# EAGLE library part AMBER (library Amiga)
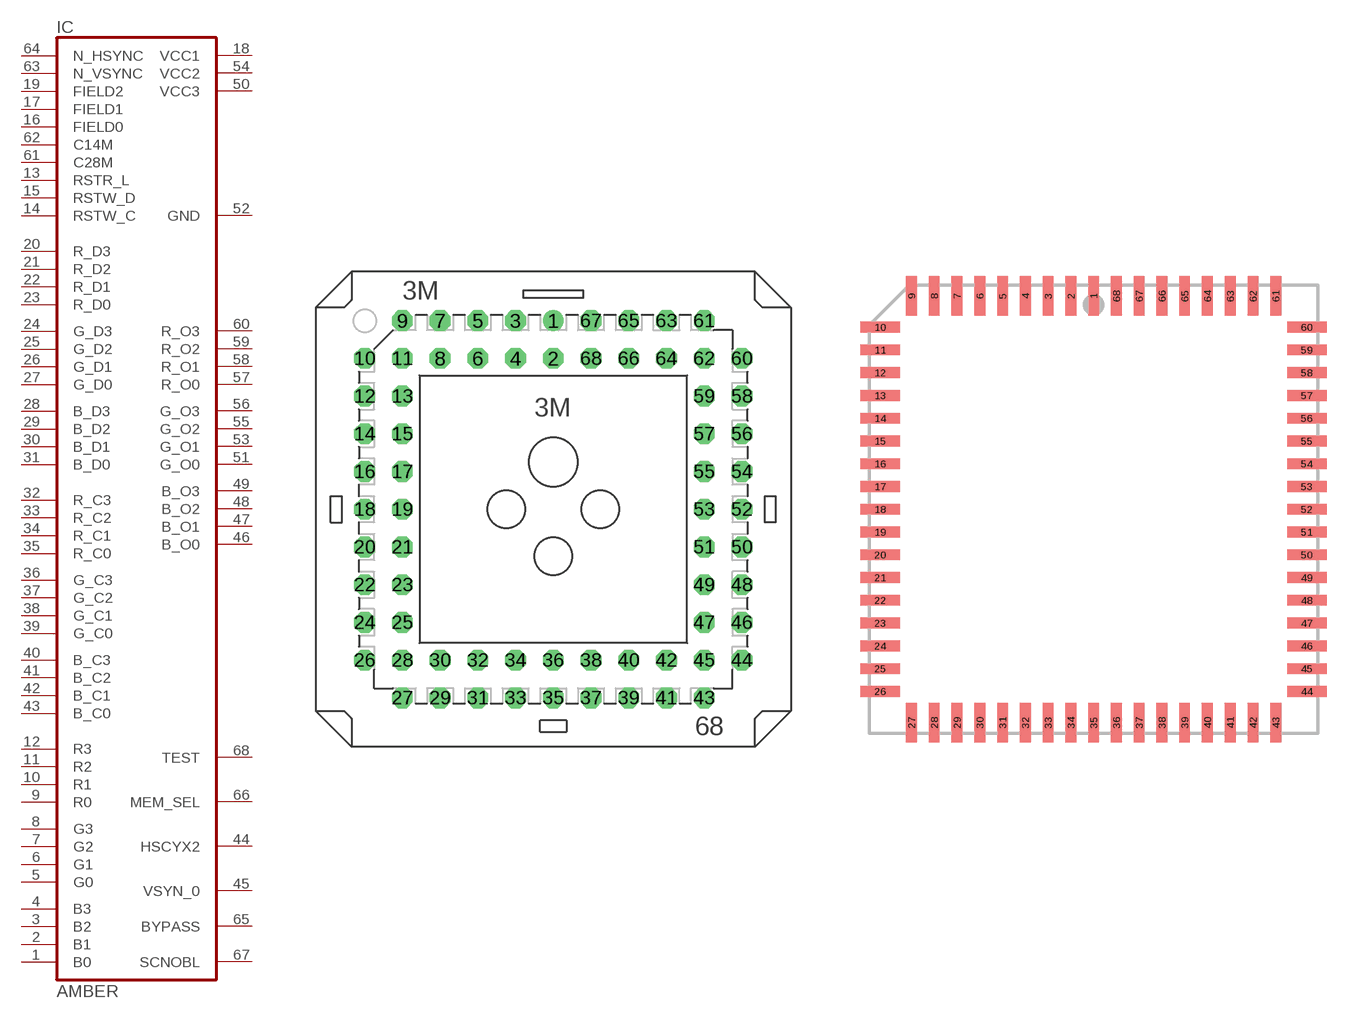
[diagram p3: symbol with the pads of PLCC68_T; footprints PLCC68_T, PLCC68_S]

Designator prefix IC

## AMBER_THT  [PLCC68_T]
1  B0  in
2  B1  in
3  B2  in
4  B3  in
5  G0  in
6  G1  in
7  G2  in
8  G3  in
9  R0  in
10  R1  in
11  R2  in
12  R3  in
13  RSTR_L  out
14  RSTW_C  out
15  RSTW_D  out
16  FIELD0  out
17  FIELD1  out
18  VCC1  pwr
19  FIELD2  out
20  R_D3  in
21  R_D2  in
22  R_D1  in
23  R_D0  in
24  G_D3  in
25  G_D2  in
26  G_D1  in
27  G_D0  in
28  B_D3  in
29  B_D2  in
30  B_D1  in
31  B_D0  in
32  R_C3  in
33  R_C2  in
34  R_C1  in
35  R_C0  in
36  G_C3  in
37  G_C2  in
38  G_C1  in
39  G_C0  in
40  B_C3  in
41  B_C2  in
42  B_C1  in
43  B_C0  in
44  HSCYX2  out
45  VSYN_0  out
46  B_O0  out
47  B_O1  out
48  B_O2  out
49  B_O3  out
50  VCC3  pwr
51  G_O0  out
52  GND  pwr
53  G_O1  out
54  VCC2  pwr
55  G_O2  out
56  G_O3  out
57  R_O0  out
58  R_O1  out
59  R_O2  out
60  R_O3  out
61  C28M  in
62  C14M  in
63  N_VSYNC  in
64  N_HSYNC  in
65  BYPASS  in
66  MEM_SEL  in
67  SCNOBL  in
68  TEST  in

## AMBER_SMD  [PLCC68_S]
Pads as for PLCC68_T

## Footprint PLCC68_T (pad centres in mm)
drill 0.7 pad 1.4: 1 0,12.7
drill 0.7 pad 1.4 octagon: 2 0,10.16; 3 -2.54,12.7; 4 -2.54,10.16; 5 -5.08,12.7; 6 -5.08,10.16; 7 -7.62,12.7; 8 -7.62,10.16; 9 -10.16,12.7; 10 -12.7,10.16; 11 -10.16,10.16; 12 -12.7,7.62; 13 -10.16,7.62; 14 -12.7,5.08; 15 -10.16,5.08; 16 -12.7,2.54; 17 -10.16,2.54; 18 -12.7,0; 19 -10.16,0; 20 -12.7,-2.54; 21 -10.16,-2.54; 22 -12.7,-5.08; 23 -10.16,-5.08; 24 -12.7,-7.62; 25 -10.16,-7.62; 26 -12.7,-10.16; 27 -10.16,-12.7; 28 -10.16,-10.16; 29 -7.62,-12.7; 30 -7.62,-10.16; 31 -5.08,-12.7; 32 -5.08,-10.16; 33 -2.54,-12.7; 34 -2.54,-10.16; 35 0,-12.7; 36 0,-10.16; 37 2.54,-12.7; 38 2.54,-10.16; 39 5.08,-12.7; 40 5.08,-10.16; 41 7.62,-12.7; 42 7.62,-10.16; 43 10.16,-12.7; 44 12.7,-10.16; 45 10.16,-10.16; 46 12.7,-7.62; 47 10.16,-7.62; 48 12.7,-5.08; 49 10.16,-5.08; 50 12.7,-2.54; 51 10.16,-2.54; 52 12.7,0; 53 10.16,0; 54 12.7,2.54; 55 10.16,2.54; 56 12.7,5.08; 57 10.16,5.08; 58 12.7,7.62; 59 10.16,7.62; 60 12.7,10.16; 61 10.16,12.7; 62 10.16,10.16; 63 7.62,12.7; 64 7.62,10.16; 65 5.08,12.7; 66 5.08,10.16; 67 2.54,12.7; 68 2.54,10.16

## Footprint PLCC68_S (pad centres in mm)
smd 0.6 x 2.2: 1 0,11.9; 2 -1.27,11.9; 3 -2.54,11.9; 4 -3.81,11.9; 5 -5.08,11.9; 6 -6.35,11.9; 7 -7.62,11.9; 8 -8.89,11.9; 9 -10.16,11.9; 27 -10.16,-11.9; 28 -8.89,-11.9; 29 -7.62,-11.9; 30 -6.35,-11.9; 31 -5.08,-11.9; 32 -3.81,-11.9; 33 -2.54,-11.9; 34 -1.27,-11.9; 35 0,-11.9; 36 1.27,-11.9; 37 2.54,-11.9; 38 3.81,-11.9; 39 5.08,-11.9; 40 6.35,-11.9; 41 7.62,-11.9; 42 8.89,-11.9; 43 10.16,-11.9; 61 10.16,11.9; 62 8.89,11.9; 63 7.62,11.9; 64 6.35,11.9; 65 5.08,11.9; 66 3.81,11.9; 67 2.54,11.9; 68 1.27,11.9
smd 2.2 x 0.6: 10 -11.9,10.16; 11 -11.9,8.89; 12 -11.9,7.62; 13 -11.9,6.35; 14 -11.9,5.08; 15 -11.9,3.81; 16 -11.9,2.54; 17 -11.9,1.27; 18 -11.9,0; 19 -11.9,-1.27; 20 -11.9,-2.54; 21 -11.9,-3.81; 22 -11.9,-5.08; 23 -11.9,-6.35; 24 -11.9,-7.62; 25 -11.9,-8.89; 26 -11.9,-10.16; 44 11.9,-10.16; 45 11.9,-8.89; 46 11.9,-7.62; 47 11.9,-6.35; 48 11.9,-5.08; 49 11.9,-3.81; 50 11.9,-2.54; 51 11.9,-1.27; 52 11.9,0; 53 11.9,1.27; 54 11.9,2.54; 55 11.9,3.81; 56 11.9,5.08; 57 11.9,6.35; 58 11.9,7.62; 59 11.9,8.89; 60 11.9,10.16